# EAGLE library part WIZNET_W5500 (library DSPR)
WIZ-W5500-LQFP-48
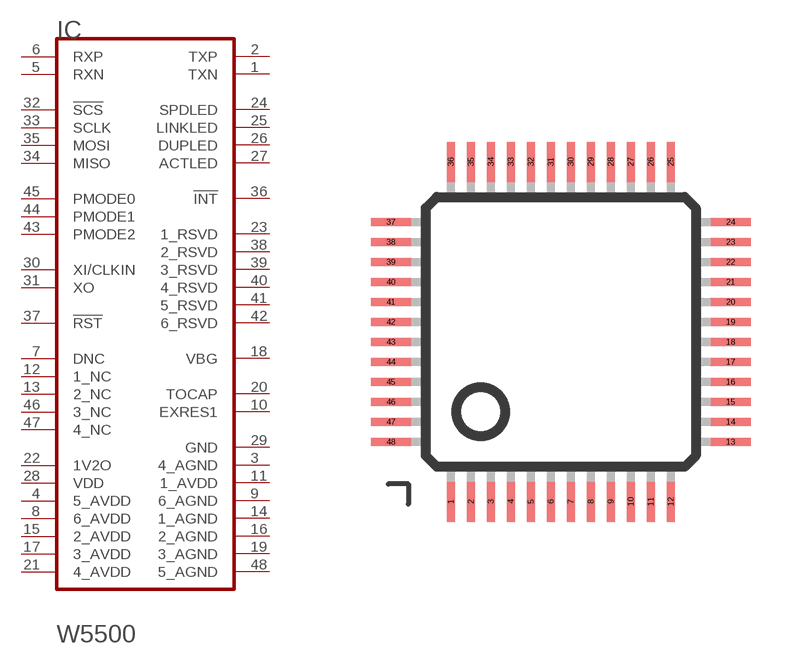
[diagram p12: symbol with the pads of LQFP48; footprint LQFP48]

Designator prefix IC

## WIZNET_W5500 (MFR_PART_NUMBER: W5500)  [LQFP48]
1  TXN  out
2  TXP  out
3  4_AGND  pwr
4  5_AVDD  pwr
5  RXN  in
6  RXP  in
7  DNC  pas
8  6_AVDD  pwr
9  6_AGND  pwr
10  EXRES1  pas
11  1_AVDD  pwr
12  1_NC  pas
13  2_NC  pas
14  1_AGND  pwr
15  2_AVDD  pwr
16  2_AGND  pwr
17  3_AVDD  pwr
18  VBG  pas
19  3_AGND  pwr
20  TOCAP  pas
21  4_AVDD  pwr
22  1V2O  pwr
23  1_RSVD  pas
24  SPDLED  out
25  LINKLED  out
26  DUPLED  out
27  ACTLED  out
28  VDD  pwr
29  GND  pwr
30  XI/CLKIN  in
31  XO  out
32  !SCS!  in
33  SCLK  in
34  MISO  hiz
35  MOSI  in
36  !INT!  out
37  !RST!  in
38  2_RSVD  pas
39  3_RSVD  pas
40  4_RSVD  pas
41  5_RSVD  pas
42  6_RSVD  pas
43  PMODE2  in
44  PMODE1  in
45  PMODE0  in
46  3_NC  pas
47  4_NC  pas
48  5_AGND  pwr

## Footprint LQFP48 (pad centres in mm)
48-pin plastic LQFP (FPT-48P-M26) www.fma.fujitsu.com/pdf/e713717.pdf
smd 0.2 x 1: 1 -2.75,-4.25; 2 -2.25,-4.25; 3 -1.75,-4.25; 4 -1.25,-4.25; 5 -0.75,-4.25; 6 -0.25,-4.25; 7 0.25,-4.25; 8 0.75,-4.25; 9 1.25,-4.25; 10 1.75,-4.25; 11 2.25,-4.25; 12 2.75,-4.25; 25 2.75,4.25; 26 2.25,4.25; 27 1.75,4.25; 28 1.25,4.25; 29 0.75,4.25; 30 0.25,4.25; 31 -0.25,4.25; 32 -0.75,4.25; 33 -1.25,4.25; 34 -1.75,4.25; 35 -2.25,4.25; 36 -2.75,4.25
smd 1 x 0.2: 13 4.25,-2.75; 14 4.25,-2.25; 15 4.25,-1.75; 16 4.25,-1.25; 17 4.25,-0.75; 18 4.25,-0.25; 19 4.25,0.25; 20 4.25,0.75; 21 4.25,1.25; 22 4.25,1.75; 23 4.25,2.25; 24 4.25,2.75; 37 -4.25,2.75; 38 -4.25,2.25; 39 -4.25,1.75; 40 -4.25,1.25; 41 -4.25,0.75; 42 -4.25,0.25; 43 -4.25,-0.25; 44 -4.25,-0.75; 45 -4.25,-1.25; 46 -4.25,-1.75; 47 -4.25,-2.25; 48 -4.25,-2.75